# EAGLE library part CS8416-CZZ (library Deegou_IC)
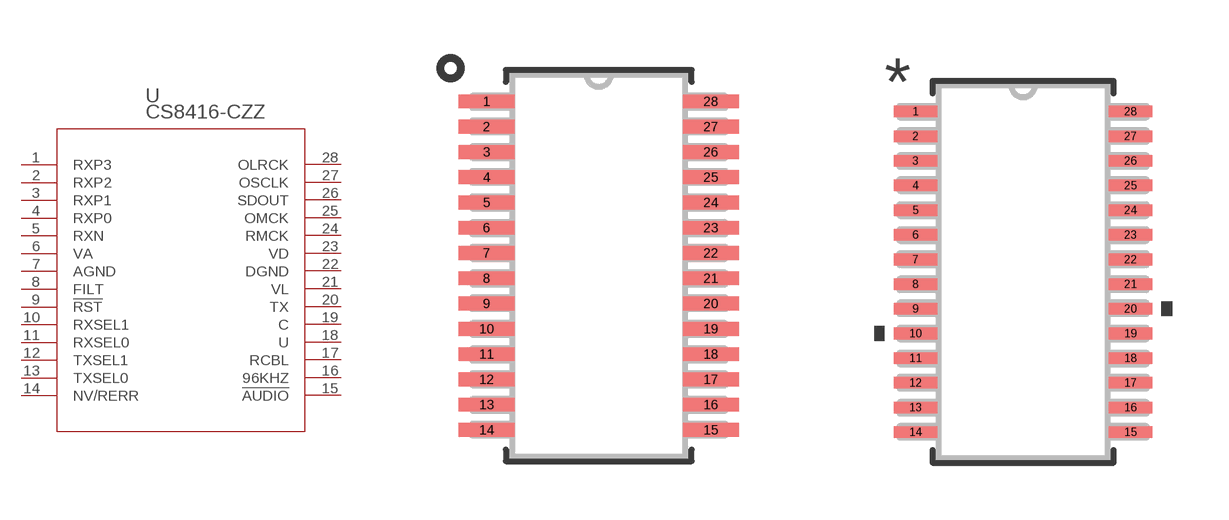
[diagram p173: symbol with the pads of CIR-TSSOP-28; footprints CIR-TSSOP-28, CIR-TSSOP-28-L]

Designator prefix U

## CS8416-CZZ (MANUFACTURER_PART_NUMBER: CS8416CZZ; VENDOR: Cirrus Logic)  [CIR-TSSOP-28]
1  RXP3  in
2  RXP2  in
3  RXP1  in
4  RXP0  in
5  RXN  in
6  VA  pwr
7  AGND  pwr
8  FILT  out
9  !RST  in
10  RXSEL1  in
11  RXSEL0  in
12  TXSEL1  in
13  TXSEL0  in
14  NV/RERR  out
15  !AUDIO  out
16  96KHZ  out
17  RCBL  out
18  U  out
19  C  out
20  TX  out
21  VL  pwr
22  DGND  pwr
23  VD  pwr
24  RMCK  out
25  OMCK  in
26  SDOUT  out
27  OSCLK
28  OLRCK

## CS8416-CZZCIR-TSSOP-28-L (MANUFACTURER_PART_NUMBER: CS8416CZZ; VENDOR: Cirrus Logic)  [CIR-TSSOP-28-L]
Pads as for CIR-TSSOP-28

## CS8416-CZZCIR-TSSOP-28-M (MANUFACTURER_PART_NUMBER: CS8416CZZ; VENDOR: Cirrus Logic)  [CIR-TSSOP-28-M]
Pads as for CIR-TSSOP-28

## Footprint CIR-TSSOP-28 (pad centres in mm)
smd 1.448 x 0.356: 1 -2.883,4.225; 2 -2.883,3.575; 3 -2.883,2.925; 4 -2.883,2.275; 5 -2.883,1.625; 6 -2.883,0.975; 7 -2.883,0.325; 8 -2.883,-0.325; 9 -2.883,-0.975; 10 -2.883,-1.625; 11 -2.883,-2.275; 12 -2.883,-2.925; 13 -2.883,-3.575; 14 -2.883,-4.225; 15 2.883,-4.225; 16 2.883,-3.575; 17 2.883,-2.925; 18 2.883,-2.275; 19 2.883,-1.625; 20 2.883,-0.975; 21 2.883,-0.325; 22 2.883,0.325; 23 2.883,0.975; 24 2.883,1.625; 25 2.883,2.275; 26 2.883,2.925; 27 2.883,3.575; 28 2.883,4.225

## Footprint CIR-TSSOP-28-L (pad centres in mm)
smd 1.143 x 0.305: 1 -2.832,4.225; 2 -2.832,3.575; 3 -2.832,2.925; 4 -2.832,2.275; 5 -2.832,1.625; 6 -2.832,0.975; 7 -2.832,0.325; 8 -2.832,-0.325; 9 -2.832,-0.975; 10 -2.832,-1.625; 11 -2.832,-2.275; 12 -2.832,-2.925; 13 -2.832,-3.575; 14 -2.832,-4.225; 15 2.832,-4.225; 16 2.832,-3.575; 17 2.832,-2.925; 18 2.832,-2.275; 19 2.832,-1.625; 20 2.832,-0.975; 21 2.832,-0.325; 22 2.832,0.325; 23 2.832,0.975; 24 2.832,1.625; 25 2.832,2.275; 26 2.832,2.925; 27 2.832,3.575; 28 2.832,4.225

## Footprint CIR-TSSOP-28-M (pad centres in mm)
smd 1.753 x 0.406: 1 -2.934,4.225; 2 -2.934,3.575; 3 -2.934,2.925; 4 -2.934,2.275; 5 -2.934,1.625; 6 -2.934,0.975; 7 -2.934,0.325; 8 -2.934,-0.325; 9 -2.934,-0.975; 10 -2.934,-1.625; 11 -2.934,-2.275; 12 -2.934,-2.925; 13 -2.934,-3.575; 14 -2.934,-4.225; 15 2.934,-4.225; 16 2.934,-3.575; 17 2.934,-2.925; 18 2.934,-2.275; 19 2.934,-1.625; 20 2.934,-0.975; 21 2.934,-0.325; 22 2.934,0.325; 23 2.934,0.975; 24 2.934,1.625; 25 2.934,2.275; 26 2.934,2.925; 27 2.934,3.575; 28 2.934,4.225